# EAGLE library part LV8712T (library matt)
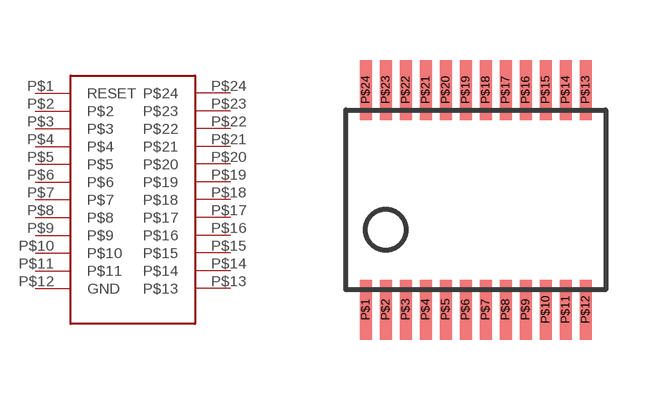
[diagram p1: symbol with the pads of HTSSOP24; footprint HTSSOP24]

Designator prefix -

## LV8712T  [HTSSOP24]
P$1  RESET
P$2  P$2
P$3  P$3
P$4  P$4
P$5  P$5
P$6  P$6
P$7  P$7
P$8  P$8
P$9  P$9
P$10  P$10
P$11  P$11
P$12  GND
P$13  P$13
P$14  P$14
P$15  P$15
P$16  P$16
P$17  P$17
P$18  P$18
P$19  P$19
P$20  P$20
P$21  P$21
P$22  P$22
P$23  P$23
P$24  P$24

## Footprint HTSSOP24 (pad centres in mm)
smd 0.3 x 1.5: P$1 -3,-2.5; P$2 -2.5,-2.5; P$3 -2,-2.5; P$4 -1.5,-2.5; P$5 -1,-2.5; P$6 -0.5,-2.5; P$7 0,-2.5; P$8 0.5,-2.5; P$9 1,-2.5; P$10 1.5,-2.5; P$11 2,-2.5; P$12 2.5,-2.5; P$13 2.5,3; P$14 2,3; P$15 1.5,3; P$16 1,3; P$17 0.5,3; P$18 0,3; P$19 -0.5,3; P$20 -1,3; P$21 -1.5,3; P$22 -2,3; P$23 -2.5,3; P$24 -3,3